# Altium footprint library JMPKG.PcbLib: 337 footprints (part 18 of 22)
Each footprint in its own frame and in the unit in brackets; x right, y up, seen from the top. Pads: shape width x height; smd on the part's side, far side on the other; paste and mask are expansions set on the pad; w line width, h text height; cw(c..) or ccw(c..) is an arc to the next point about the centre after c.
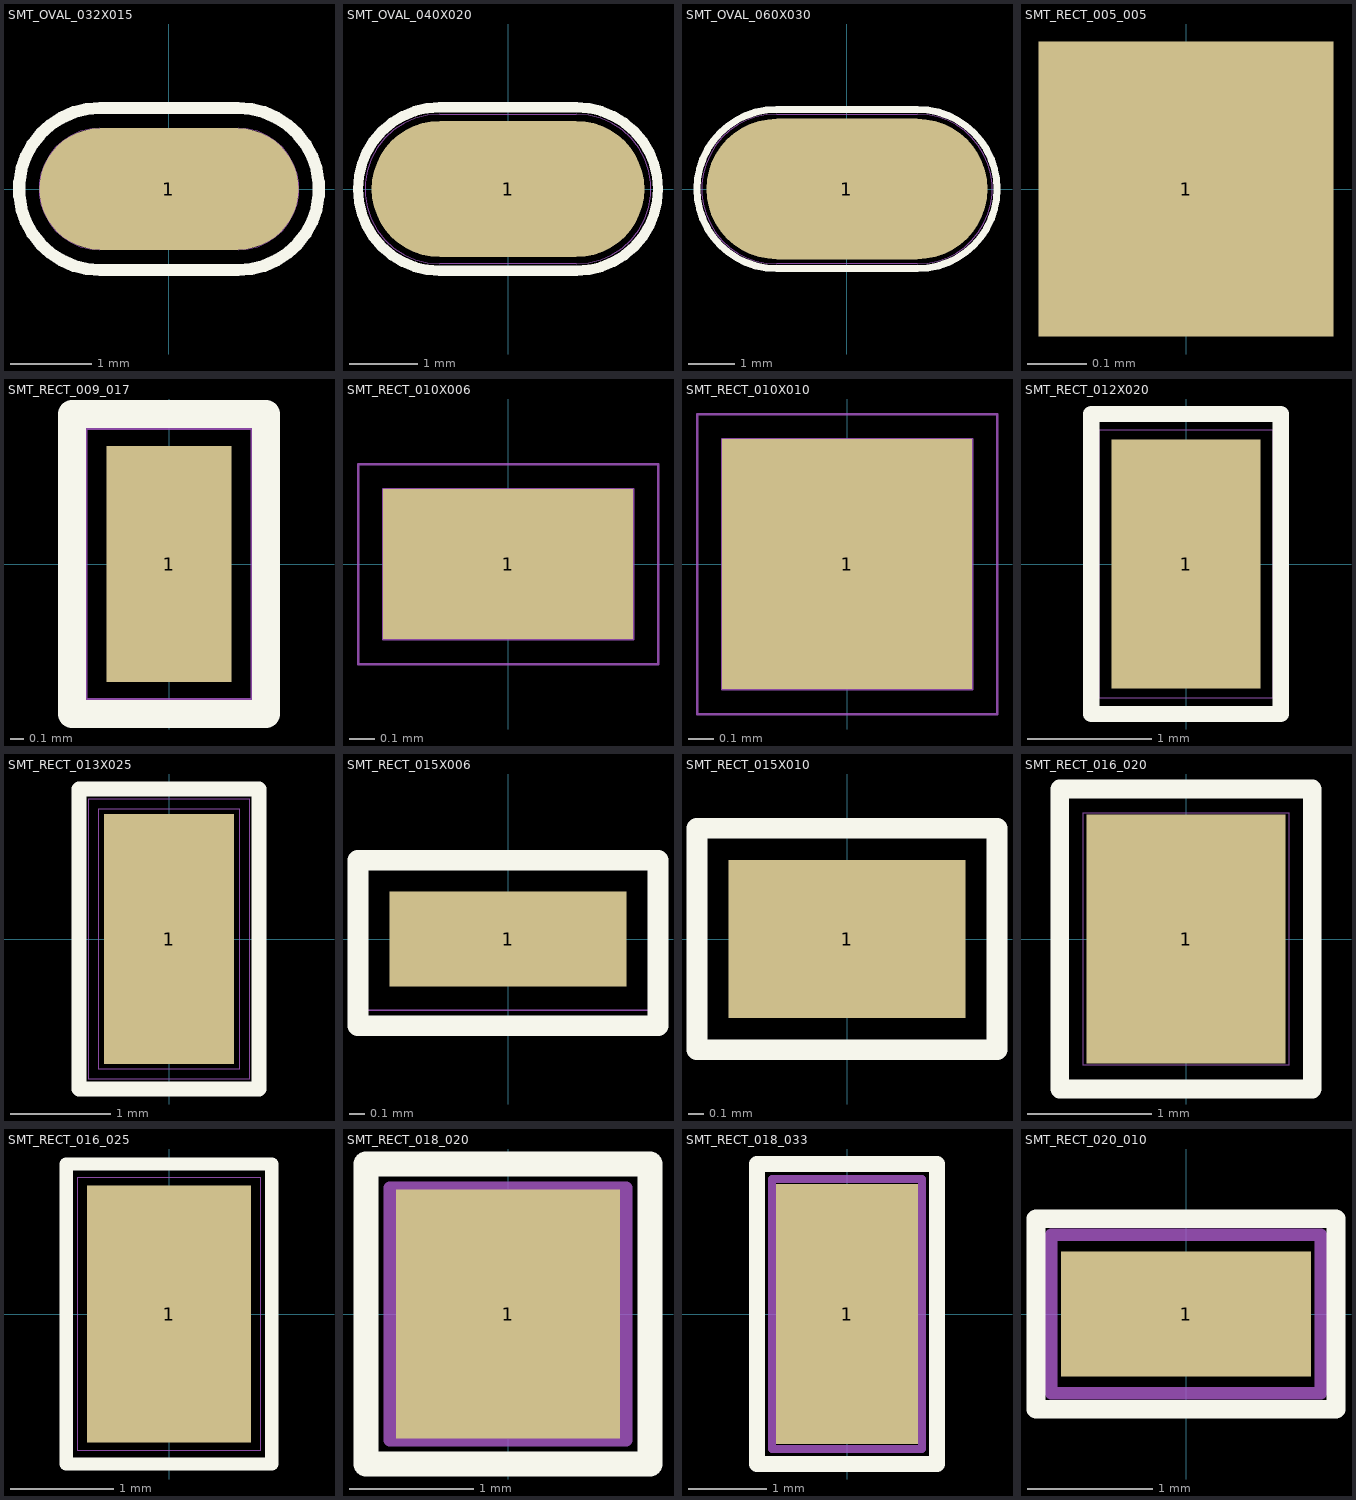
[diagram p17: the footprints below, top view; thin cyan lines are the x and y axes]

## SMT_OVAL_032X015 [mm]
pads (1):
  oval 3.2x1.5 smd mask+0.05: 1(0,0)
Top Overlay:
  lines w0.15: -0.85,-1 0.85,-1 ccw(c0.85,0) 0.85,1 -0.85,1 ccw(c-0.85,0) -0.85,-1
Mechanical 15:
  lines w0.01: -0.852,-0.75 0.852,-0.75 ccw(c0.852,0) 0.852,0.75 -0.852,0.75 ccw(c-0.852,0) -0.852,-0.75
Multi-Layer:
  text "Value" at -0.861,-0.94 h0.6
Mechanical 20:
  lines w0.01: -0.85,-1 0.85,-1 ccw(c0.85,0) 0.85,1 -0.85,1 ccw(c-0.85,0) -0.85,-1

## SMT_OVAL_040X020 [mm]
pads (1):
  oval 4x2 smd mask+0.05: 1(0,0)
Top Overlay:
  lines w0.15: -1,-1.2 1,-1.2 ccw(c1,0) 1,1.2 -1,1.2 ccw(c-1,0) -1,-1.2
Mechanical 15:
  lines w0.01: -1,-1.1 1,-1.1 ccw(c1,0) 1,1.1 -1,1.1 ccw(c-1,0) -1,-1.1
Multi-Layer:
  text "Value" at -0.861,-0.94 h0.6
  text "Value" at -0.888,-0.905 h0.6
Mechanical 20:
  lines w0.01: -1,-1.2 1,-1.2 ccw(c1,0) 1,1.2 -1,1.2 ccw(c-1,0) -1,-1.2

## SMT_OVAL_060X030 [mm]
pads (1):
  oval 6x3 smd mask+0.05: 1(0,0)
Top Overlay:
  lines w0.15: -1.5,-1.7 1.503,-1.7 ccw(c1.503,0) 1.503,1.7 -1.5,1.7 ccw(c-1.5,0) -1.5,-1.7
Mechanical 15:
  lines w0.01: -1.5,-1.6 1.5,-1.6 ccw(c1.5,0) 1.5,1.6 -1.5,1.6 ccw(c-1.5,0) -1.5,-1.6
Multi-Layer:
  text "Value" at -0.861,-0.94 h0.6
  text "Value" at -0.888,-0.905 h0.6
Mechanical 20:
  lines w0.01: -1.5,-1.7 1.5,-1.7 ccw(c1.5,0) 1.5,1.7 -1.5,1.7 ccw(c-1.5,0) -1.5,-1.7

## SMT_RECT_005_005 [mm]
pads (1):
  rect 0.5x0.5 smd: 1(0,0)
Multi-Layer:
  text "Value" at -1.045,-1.187 h0.75

## SMT_RECT_009_017 [mm]
pads (1):
  rect 0.9x1.7 smd mask+0.1: 1(0,0)
Top Overlay:
  lines w0.2: -0.699,-1.079 0.699,-1.079 0.699,1.079 -0.699,1.079 -0.699,-1.079
Mechanical 15:
  lines w0.1: -0.635,-1.016 0.635,-1.016 0.635,1.016 -0.635,1.016 -0.635,-1.016

## SMT_RECT_010X006 [mm]
pads (1):
  rect 1x0.6 smd: 1(0,0)
Mechanical 15:
  lines w0.01: -0.5,-0.3 0.5,-0.3 0.5,0.3 -0.5,0.3 -0.5,-0.3
Mechanical 20:
  lines w0.01: -0.6,-0.4 0.6,-0.4 0.6,0.4 -0.6,0.4 -0.6,-0.4

## SMT_RECT_010X010 [mm]
pads (1):
  rrect0% 1x1 smd: 1(0,0)
Mechanical 15:
  lines w0.01: -0.5,-0.5 0.5,-0.5 0.5,0.5 -0.5,0.5 -0.5,-0.5
Mechanical 20:
  lines w0.01: -0.6,-0.6 0.6,-0.6 0.6,0.6 -0.6,0.6 -0.6,-0.6

## SMT_RECT_012X020 [mm]
pads (1):
  rect 1.2x2 smd mask+0.05: 1(0,0)
Top Overlay:
  lines w0.13: -0.762,-1.206 0.762,-1.206 0.762,1.206 -0.762,1.206 -0.762,-1.206
Mechanical 15:
  lines w0.01: -0.699,-1.079 0.699,-1.079 0.699,1.079 -0.699,1.079 -0.699,-1.079
Mechanical 20:
  lines w0.01: -0.762,-1.206 0.762,-1.206 0.762,1.206 -0.762,1.206 -0.762,-1.206

## SMT_RECT_013X025 [mm]
pads (1):
  rect 1.3x2.5 smd mask+0.05: 1(0,0)
Top Overlay:
  lines w0.15: -0.9,-1.5 0.9,-1.5 0.9,1.5 -0.9,1.5 -0.9,-1.5
Mechanical 15:
  lines w0.01: -0.7,-1.3 0.7,-1.3 0.7,1.3 -0.7,1.3 -0.7,-1.3
Multi-Layer:
  text "Value" at -0.988,-0.675 h0.6
Mechanical 20:
  lines w0.01: -0.8,-1.4 0.8,-1.4 0.8,1.4 -0.8,1.4 -0.8,-1.4

## SMT_RECT_015X006 [mm]
pads (1):
  rect 1.5x0.6 smd mask+0.05: 1(0,0)
Top Overlay:
  lines w0.13: -0.95,-0.55 0.95,-0.55 0.95,0.5 -0.95,0.5 -0.95,-0.55
Mechanical 15:
  lines w0.01: -0.9,-0.45 0.9,-0.45 0.9,0.45 -0.9,0.45 -0.9,-0.45
Multi-Layer:
  text "Value" at -0.988,-0.819 h0.6
Mechanical 20:
  lines w0.01: -0.95,-0.55 0.95,-0.55 0.95,0.5 -0.95,0.5 -0.95,-0.55

## SMT_RECT_015X010 [mm]
pads (1):
  rect 1.5x1 smd mask+0.05: 1(0,0)
Top Overlay:
  lines w0.13: -0.95,-0.7 0.95,-0.7 0.95,0.7 -0.95,0.7 -0.95,-0.7
Mechanical 15:
  lines w0.01: -0.9,-0.65 0.9,-0.65 0.9,0.65 -0.9,0.65 -0.9,-0.65
Multi-Layer:
  text "Value" at -0.988,-0.819 h0.6
Mechanical 20:
  lines w0.01: -0.95,-0.7 0.95,-0.7 0.95,0.7 -0.95,0.7 -0.95,-0.7

## SMT_RECT_016_020 [mm]
pads (1):
  rect 1.6x2 smd mask+0.05: 1(0,0)
Top Overlay:
  lines w0.15: -1.016,-1.206 1.016,-1.206 1.016,1.206 -1.016,1.206 -1.016,-1.206
Mechanical 15:
  lines w0.01: -0.826,-1.016 0.826,-1.016 0.826,1.016 -0.826,1.016 -0.826,-1.016
Mechanical 20:
  lines w0.01: -1.016,-1.206 1.016,-1.206 1.016,1.206 -1.016,1.206 -1.016,-1.206

## SMT_RECT_016_025 [mm]
pads (1):
  rect 1.6x2.5 smd mask+0.05: 1(0,0)
Top Overlay:
  lines w0.13: -1,-1.46 1,-1.46 1,1.46 -1,1.46 -1,-1.46
Mechanical 15:
  lines w0.01: -0.889,-1.333 0.889,-1.333 0.889,1.333 -0.889,1.333 -0.889,-1.333
Multi-Layer:
  text "Value" at -0.788,-1.175 h0.6
Mechanical 20:
  lines w0.01: -1,-1.46 1,-1.46 1,1.46 -1,1.46 -1,-1.46

## SMT_RECT_018_020 [mm]
pads (1):
  rect 1.8x2 smd mask+0.05: 1(0,0)
Top Overlay:
  lines w0.2: -1.143,-1.206 1.143,-1.206 1.143,1.206 -1.143,1.206 -1.143,-1.206
Mechanical 15:
  lines w0.1: -0.953,-1.016 0.953,-1.016 0.953,1.016 -0.953,1.016 -0.953,-1.016
Multi-Layer:
  text "Value" at -1.045,-1.187 h0.75
Mechanical 20:
  lines w0.1: -1.143,-1.206 1.143,-1.206 1.143,1.206 -1.143,1.206 -1.143,-1.206

## SMT_RECT_018_033 [mm]
pads (1):
  rect 1.8x3.3 smd mask+0.05: 1(0,0)
Top Overlay:
  lines w0.2: -1.143,-1.905 1.143,-1.905 1.143,1.905 -1.143,1.905 -1.143,-1.905
Mechanical 15:
  lines w0.1: -0.953,-1.714 0.953,-1.714 0.953,1.714 -0.953,1.714 -0.953,-1.714
Multi-Layer:
  text "Value" at -1.045,-1.187 h0.75
Mechanical 20:
  lines w0.1: -1.143,-1.905 1.143,-1.905 1.143,1.905 -1.143,1.905 -1.143,-1.905

## SMT_RECT_020_010 [mm]
pads (1):
  rect 2x1 smd mask+0.05: 1(0,0)
Top Overlay:
  lines w0.15: -1.2,-0.762 1.2,-0.762 1.2,0.762 -1.2,0.762 -1.2,-0.762
Mechanical 15:
  lines w0.1: -1.079,-0.635 1.079,-0.635 1.079,0.635 -1.079,0.635 -1.079,-0.635
Multi-Layer:
  text "Value" at -1.052,-0.667 h0.6
Mechanical 20:
  lines w0.1: -1.2,-0.762 1.2,-0.762 1.2,0.762 -1.2,0.762 -1.2,-0.762